# Altium schematic symbol library AUTO_D_SCHEMATICS.SCHLIB: 16 symbols
Pins are listed as number, name and electrical type; pins without a type are passive.

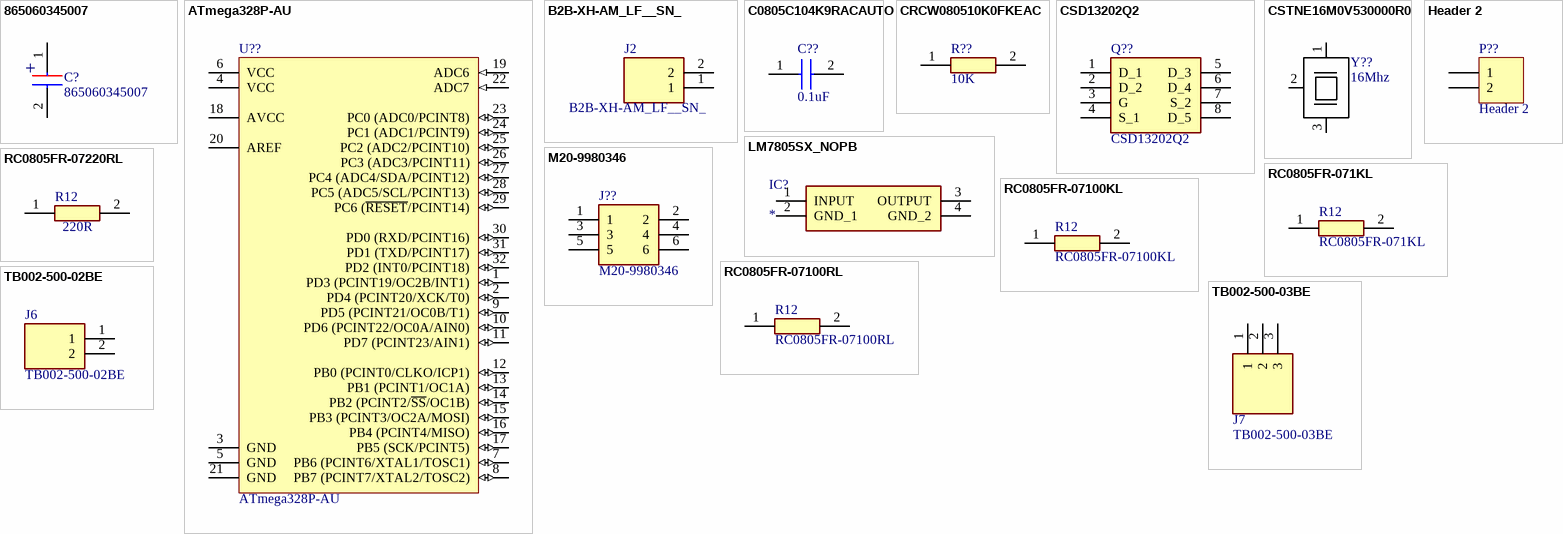
[diagram p0: symbols 865060345007 to TB002-500-03BE]

## 865060345007
designator C?
Capacitor; Manufacturer_Name: Wurth Elektronik; Datasheet Link: https://componentsearchengine.com/Datasheets/2/865060345007.pdf; Height: 7.7mm; Manufacturer_Part_Number: 865060345007; Mouser Part Number: 710-865060345007; Mouser Price/Stock: https://www.mouser.co.uk/ProductDetail/Wurth-Elektronik/865060345007?qs=0KOYDY2FL2%2F8lOgt%2FC4iag%3D%3D
footprint CAPAE660X770N
pins: 1 +, 2 -

## ATmega328P-AU
designator U??
8-bit Microcontrollers - MCU 32KB In-system Flash 20MHz 1.8V-5.5V; Manufacturer_Name: Microchip Technology / Atmel; Package: 32-TQFP (7x7)mm; Type: SMD; Manufacturer_Part_Number: ATMEGA328P-AU; Mouser_Part_Number: 556-ATMEGA328P-AU; Price: $2.01
footprint QFP80P900X900X120-32N
footprint 32A_L (Thin QFP, 32-Leads, Body 7x7mm, Pitch 0.8mm, IPC High Density)
footprint 32A_M (Thin QFP, 32-Leads, Body 7x7mm, Pitch 0.8mm, IPC Low Density)
pins: 1 PD3 (PCINT19/OC2B/INT1) (io), 2 PD4 (PCINT20/XCK/T0) (io), 3 GND (power), 4 VCC (power), 5 GND (power), 6 VCC (power), 7 PB6 (PCINT6/XTAL1/TOSC1) (io), 8 PB7 (PCINT7/XTAL2/TOSC2) (io), 9 PD5 (PCINT21/OC0B/T1) (io), 10 PD6 (PCINT22/OC0A/AIN0) (io), 11 PD7 (PCINT23/AIN1) (io), 12 PB0 (PCINT0/CLKO/ICP1) (io), 13 PB1 (PCINT1/OC1A) (io), 14 PB2 (PCINT2/~{SS}/OC1B) (io), 15 PB3 (PCINT3/OC2A/MOSI) (io), 16 PB4 (PCINT4/MISO) (io), 17 PB5 (SCK/PCINT5) (io), 18 AVCC (power), 19 ADC6 (in), 20 AREF, 21 GND (power), 22 ADC7 (in), 23 PC0 (ADC0/PCINT8) (io), 24 PC1 (ADC1/PCINT9) (io), 25 PC2 (ADC2/PCINT10) (io), 26 PC3 (ADC3/PCINT11) (io), 27 PC4 (ADC4/SDA/PCINT12) (io), 28 PC5 (ADC5/SCL/PCINT13) (io), 29 PC6 (~{RESET}/PCINT14) (io), 30 PD0 (RXD/PCINT16) (io), 31 PD1 (TXD/PCINT17) (io), 32 PD2 (INT0/PCINT18) (io)

## B2B-XH-AM_LF__SN_
designator J2
Connector; Manufacturer_Name: JST (JAPAN SOLDERLESS TERMINALS); Manufacturer_Part_Number: B2B-XH-AM(LF)(SN); Datasheet Link: https://www.jst-mfg.com/product/pdf/eng/eXH.pdf; Height: 7mm; Arrow Part Number: B2B-XH-AM(LF)(SN); Arrow Price/Stock: https://www.arrow.com/en/products/b2b-xh-am-lf-sn/jst-manufacturing
footprint B2BXHAMLFSN
pins: 1, 2

## C0805C104K9RACAUTO
designator C??, comment 0.1uF
Capacitor; Manufacturer_Name: Kemet; Manufacturer_Part_Number: C0805C104K9RACAUTO; Datasheet Link: https://componentsearchengine.com/Datasheets/2/C0805C104K9RACAUTO.pdf; Height: 0.88mm; Mouser Part Number: 80-C0805C104K9RAUTO; Mouser Price/Stock: https://www.mouser.co.uk/ProductDetail/KEMET/C0805C104K9RACAUTO?qs=ds50AKTGxA84SWre%252BvImOA%3D%3D
footprint CAPC2012X88N
pins: 1, 2

## CRCW080510K0FKEAC
designator R??, comment 10K
Resistor; Manufacturer_Name: Vishay; Manufacturer_Part_Number: CRCW080510K0FKEAC; Mouser Part Number: 71-CRCW080510K0FKEAC; Datasheet Link: https://mouser.componentsearchengine.com/Datasheets/1/CRCW080510K0FKEAC.pdf; Height: 0.6mm; Mouser Price/Stock: https://www.mouser.co.uk/ProductDetail/Vishay-Dale/CRCW080510K0FKEAC?qs=E3Y5ESvWgWORadmUijPtxQ%3D%3D; Arrow Part Number: CRCW080510K0FKEAC; Arrow Price/Stock: https://www.arrow.com/en/products/crcw080510k0fkeac/vishay?region=nac
footprint RESC2012X60N
pins: 1, 2

## CSD13202Q2
designator Q??
MOSFET (N-Channel); Manufacturer_Name: Texas Instruments; Datasheet Link: http://www.ti.com/lit/gpn/csd13202q2; Manufacturer_Part_Number: CSD13202Q2; Mouser Part Number: 595-CSD13202Q2; Mouser Price/Stock: https://www.mouser.co.uk/ProductDetail/Texas-Instruments/CSD13202Q2?qs=igp4D3uu33Lqy8Xk%2F8NHvg%3D%3D; Arrow Part Number: CSD13202Q2; Arrow Price/Stock: https://www.arrow.com/en/products/csd13202q2/texas-instruments
footprint CSD16301Q2
pins: 1 D_1, 2 D_2, 3 G, 4 S_1, 5 D_3, 6 D_4, 7 S_2, 8 D_5

## CSTNE16M0V530000R0
designator Y??, comment 16Mhz
Resonators 16.0000MHz 15pF SMD CHP Resntr; Manufacturer_Part_Number: CSTNE16M0V530000R0; Manufacturer_Name: Murata Electronics; Type: SMD
footprint CSTNE16M0V530000R0
pins: 1 XL1, 2 GND, 3 XL2

## Header 2
designator P??
Header, 2-Pin; LatestRevisionDate: 17-Jul-2002; LatestRevisionNote: Re-released for DXP Platform.; Publisher: Altium Limited
footprint HDR1X2 (Connector; Header; 2 Position)
signal-integrity model Connector
pins: 1, 2

## LM7805SX_NOPB
designator IC?
Integrated Circuit; Manufacturer_Name: Texas Instruments; Manufacturer_Part_Number: LM7805SX/NOPB; Datasheet Link: http://www.ti.com/lit/gpn/LM7800; Mouser Part Number: 595-LM7805SX/NOPB; Mouser Price/Stock: https://www.mouser.co.uk/ProductDetail/Texas-Instruments/LM7805SX-NOPB?qs=gO6GG99qvRB7s5bGtFssmw%3D%3D; Arrow Part Number: LM7805SX/NOPB; Arrow Price/Stock: https://www.arrow.com/en/products/lm7805sxnopb/texas-instruments?region=nac
footprint KTT0003B
pins: 1 INPUT, 2 GND_1, 3 OUTPUT, 4 GND_2

## M20-9980346
designator J??
Connector; Manufacturer_Name: Harwin; Manufacturer_Part_Number: M20-9980346; Mouser Part Number: 855-M20-9980346; Datasheet Link: https://cdn.harwin.com/pdfs/M20-998.pdf?utm_source=3D_PDF&utm_medium=3D_PDF&utm_campaign=3D_PDF; Height: 8.68mm; Mouser Price/Stock: https://www.mouser.co.uk/ProductDetail/Harwin/M20-9980346/?qs=%252Bk6%2F5FB6qrmHk2P20oz3FA%3D%3D
footprint HDRV6W64P254_2X3_762X508X868P
pins: 1, 2, 3, 4, 5, 6

## RC0805FR-071KL
designator R12
Resistor; Manufacturer_Name: YAGEO (PHYCOMP); Datasheet Link: http://www.yageo.com/documents/recent/PYu-RC_Group_51_RoHS_L_10.pdf; Height: 0.6mm; Manufacturer_Part_Number: RC0805FR-071KL; Mouser Part Number: 603-RC0805FR-071KL; Mouser Price/Stock: https://www.mouser.com/Search/Refine.aspx?Keyword=603-RC0805FR-071KL; RS Part Number: 6183583; RS Price/Stock: http://uk.rs-online.com/web/p/products/6183583
footprint RESC2012X60N
pins: 1, 2

## RC0805FR-07100KL
designator R12
Resistor; Manufacturer_Name: YAGEO (PHYCOMP); Manufacturer_Part_Number: RC0805FR-07100KL
footprint RESC2012X60N
pins: 1, 2

## RC0805FR-07100RL
designator R12
Resistor; Manufacturer_Name: YAGEO (PHYCOMP); Manufacturer_Part_Number: RC0805FR-07100RL
footprint RESC2012X60N
pins: 1, 2

## RC0805FR-07220RL
designator R12, comment 220R
Resistor; Manufacturer_Name: YAGEO (PHYCOMP); Manufacturer_Part_Number: RC0805FR-07220RL
footprint RESC2012X60N
pins: 1, 2

## TB002-500-02BE
designator J6
Connector; Manufacturer_Name: CUI Inc.; Datasheet Link: https://eu.mouser.com/datasheet/2/670/tb002_500-1550579.pdf; Height: 10.4mm; Manufacturer_Part_Number: TB002-500-02BE; Mouser Part Number: 490-TB002-500-02BE; Mouser Price/Stock: https://www.mouser.co.uk/ProductDetail/CUI-Devices/TB002-500-02BE?qs=vLWxofP3U2x9716kcgva%2Fw%3D%3D; Arrow Part Number: TB002-500-02BE; Arrow Price/Stock: https://www.arrow.com/en/products/tb002-500-02be/cui-devices?region=nac
footprint TB00250002BE
pins: 1, 2

## TB002-500-03BE
designator J7
Connector; Manufacturer_Name: CUI Inc.; Datasheet Link: https://www.cuidevices.com/product/resource/tb002-500.pdf; Height: 10mm; Manufacturer_Part_Number: TB002-500-03BE; Mouser Part Number: 490-TB002-500-03BE; Mouser Price/Stock: https://www.mouser.co.uk/ProductDetail/CUI-Devices/TB002-500-03BE?qs=vLWxofP3U2xKqUO2wcZ40g%3D%3D; Arrow Part Number: TB002-500-03BE; Arrow Price/Stock: https://www.arrow.com/en/products/tb002-500-03be/cui-devices?region=nac
footprint SHDR3W100P0X500_1X3_1500X760X1000P
pins: 1, 2, 3